# Altium footprint library IPC-7355 QFP_Shrink_Sq_40P_Side_N.PcbLib: 26 footprints (part 2 of 3)
Each footprint in its own frame and in the unit in brackets; x right, y up, seen from the top. Pads: shape width x height; smd on the part's side, far side on the other; paste and mask are expansions set on the pad; w line width, h text height; cw(c..) or ccw(c..) is an arc to the next point about the centre after c.
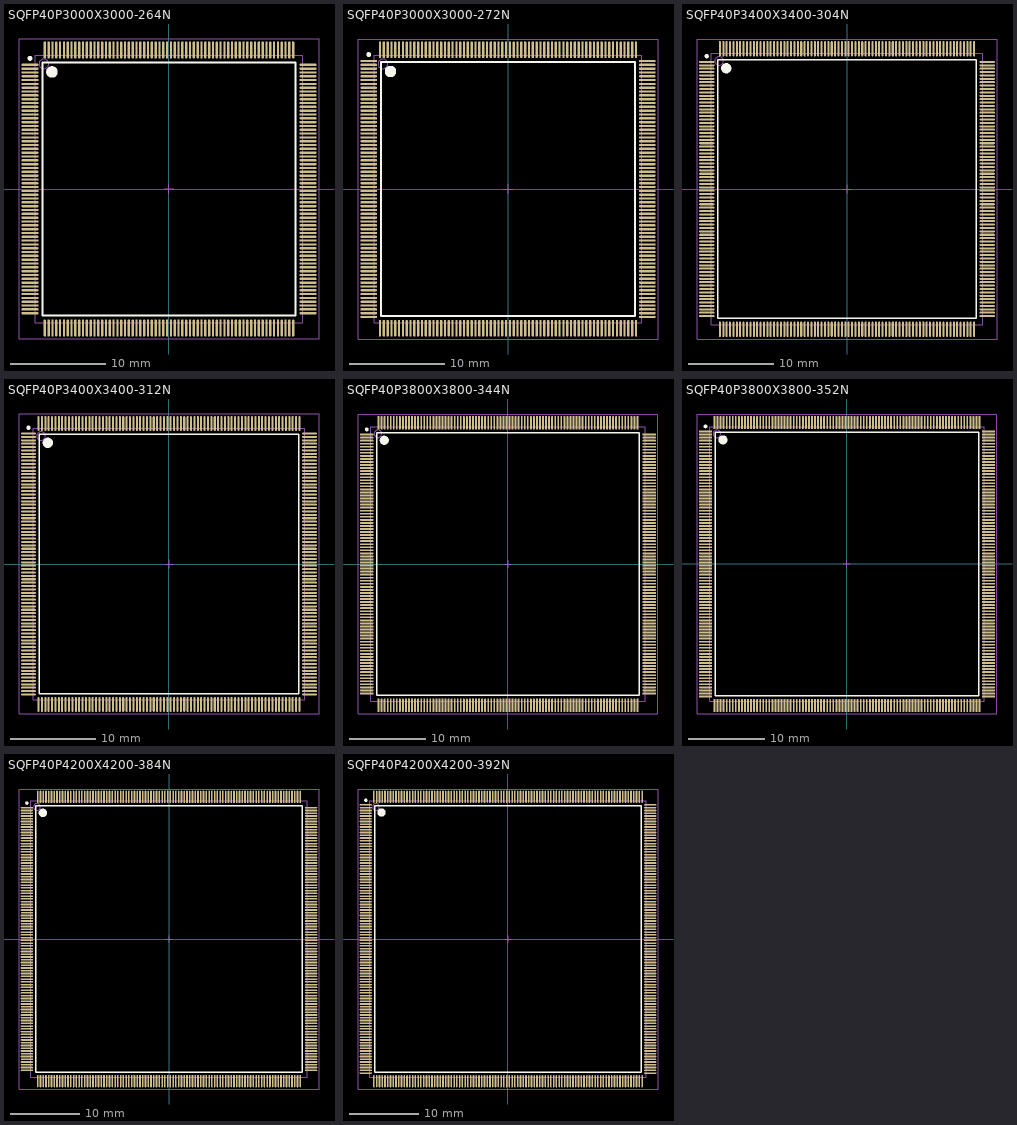
[diagram p1: the footprints below, top view; thin cyan lines are the x and y axes]

## SQFP40P3000X3000-264N [mm] "Shrink QFP, 264-Leads, Body 28x28mm, Pitch 0.4mm, IPC Medium Density"
height 3.75
pads (264):
  oval 1.8x0.24 smd: 1(-14.55,13) 2(-14.55,12.6) 3(-14.55,12.2) 4(-14.55,11.8) 5(-14.55,11.4) 6(-14.55,11) 7(-14.55,10.6) 8(-14.55,10.2) 9(-14.55,9.8) 10(-14.55,9.4) 11(-14.55,9) 12(-14.55,8.6) 13(-14.55,8.2) 14(-14.55,7.8) 15(-14.55,7.4) 16(-14.55,7) 17(-14.55,6.6) 18(-14.55,6.2) 19(-14.55,5.8) 20(-14.55,5.4) 21(-14.55,5) 22(-14.55,4.6) 23(-14.55,4.2) 24(-14.55,3.8) 25(-14.55,3.4) 26(-14.55,3) 27(-14.55,2.6) 28(-14.55,2.2) 29(-14.55,1.8) 30(-14.55,1.4) 31(-14.55,1) 32(-14.55,0.6) 33(-14.55,0.2) 34(-14.55,-0.2) 35(-14.55,-0.6) 36(-14.55,-1) 37(-14.55,-1.4) 38(-14.55,-1.8) 39(-14.55,-2.2) 40(-14.55,-2.6) 41(-14.55,-3) 42(-14.55,-3.4) 43(-14.55,-3.8) 44(-14.55,-4.2) 45(-14.55,-4.6) 46(-14.55,-5) 47(-14.55,-5.4) 48(-14.55,-5.8) 49(-14.55,-6.2) 50(-14.55,-6.6) 51(-14.55,-7) 52(-14.55,-7.4) 53(-14.55,-7.8) 54(-14.55,-8.2) 55(-14.55,-8.6) 56(-14.55,-9) 57(-14.55,-9.4) 58(-14.55,-9.8) 59(-14.55,-10.2) 60(-14.55,-10.6) 61(-14.55,-11) 62(-14.55,-11.4) 63(-14.55,-11.8) 64(-14.55,-12.2) 65(-14.55,-12.6) 66(-14.55,-13) 133(14.55,-13) 134(14.55,-12.6) 135(14.55,-12.2) 136(14.55,-11.8) 137(14.55,-11.4) 138(14.55,-11) 139(14.55,-10.6) 140(14.55,-10.2) 141(14.55,-9.8) 142(14.55,-9.4) 143(14.55,-9) 144(14.55,-8.6) 145(14.55,-8.2) 146(14.55,-7.8) 147(14.55,-7.4) 148(14.55,-7) 149(14.55,-6.6) 150(14.55,-6.2) 151(14.55,-5.8) 152(14.55,-5.4) 153(14.55,-5) 154(14.55,-4.6) 155(14.55,-4.2) 156(14.55,-3.8) 157(14.55,-3.4) 158(14.55,-3) 159(14.55,-2.6) 160(14.55,-2.2) 161(14.55,-1.8) 162(14.55,-1.4) 163(14.55,-1) 164(14.55,-0.6) 165(14.55,-0.2) 166(14.55,0.2) 167(14.55,0.6) 168(14.55,1) 169(14.55,1.4) 170(14.55,1.8) 171(14.55,2.2) 172(14.55,2.6) 173(14.55,3) 174(14.55,3.4) 175(14.55,3.8) 176(14.55,4.2) 177(14.55,4.6) 178(14.55,5) 179(14.55,5.4) 180(14.55,5.8) 181(14.55,6.2) 182(14.55,6.6) 183(14.55,7) 184(14.55,7.4) 185(14.55,7.8) 186(14.55,8.2) 187(14.55,8.6) 188(14.55,9) 189(14.55,9.4) 190(14.55,9.8) 191(14.55,10.2) 192(14.55,10.6) 193(14.55,11) 194(14.55,11.4) 195(14.55,11.8) 196(14.55,12.2) 197(14.55,12.6) 198(14.55,13)
  oval 0.24x1.8 smd: 67(-13,-14.55) 68(-12.6,-14.55) 69(-12.2,-14.55) 70(-11.8,-14.55) 71(-11.4,-14.55) 72(-11,-14.55) 73(-10.6,-14.55) 74(-10.2,-14.55) 75(-9.8,-14.55) 76(-9.4,-14.55) 77(-9,-14.55) 78(-8.6,-14.55) 79(-8.2,-14.55) 80(-7.8,-14.55) 81(-7.4,-14.55) 82(-7,-14.55) 83(-6.6,-14.55) 84(-6.2,-14.55) 85(-5.8,-14.55) 86(-5.4,-14.55) 87(-5,-14.55) 88(-4.6,-14.55) 89(-4.2,-14.55) 90(-3.8,-14.55) 91(-3.4,-14.55) 92(-3,-14.55) 93(-2.6,-14.55) 94(-2.2,-14.55) 95(-1.8,-14.55) 96(-1.4,-14.55) 97(-1,-14.55) 98(-0.6,-14.55) 99(-0.2,-14.55) 100(0.2,-14.55) 101(0.6,-14.55) 102(1,-14.55) 103(1.4,-14.55) 104(1.8,-14.55) 105(2.2,-14.55) 106(2.6,-14.55) 107(3,-14.55) 108(3.4,-14.55) 109(3.8,-14.55) 110(4.2,-14.55) 111(4.6,-14.55) 112(5,-14.55) 113(5.4,-14.55) 114(5.8,-14.55) 115(6.2,-14.55) 116(6.6,-14.55) 117(7,-14.55) 118(7.4,-14.55) 119(7.8,-14.55) 120(8.2,-14.55) 121(8.6,-14.55) 122(9,-14.55) 123(9.4,-14.55) 124(9.8,-14.55) 125(10.2,-14.55) 126(10.6,-14.55) 127(11,-14.55) 128(11.4,-14.55) 129(11.8,-14.55) 130(12.2,-14.55) 131(12.6,-14.55) 132(13,-14.55) 199(13,14.55) 200(12.6,14.55) 201(12.2,14.55) 202(11.8,14.55) 203(11.4,14.55) 204(11,14.55) 205(10.6,14.55) 206(10.2,14.55) 207(9.8,14.55) 208(9.4,14.55) 209(9,14.55) 210(8.6,14.55) 211(8.2,14.55) 212(7.8,14.55) 213(7.4,14.55) 214(7,14.55) 215(6.6,14.55) 216(6.2,14.55) 217(5.8,14.55) 218(5.4,14.55) 219(5,14.55) 220(4.6,14.55) 221(4.2,14.55) 222(3.8,14.55) 223(3.4,14.55) 224(3,14.55) 225(2.6,14.55) 226(2.2,14.55) 227(1.8,14.55) 228(1.4,14.55) 229(1,14.55) 230(0.6,14.55) 231(0.2,14.55) 232(-0.2,14.55) 233(-0.6,14.55) 234(-1,14.55) 235(-1.4,14.55) 236(-1.8,14.55) 237(-2.2,14.55) 238(-2.6,14.55) 239(-3,14.55) 240(-3.4,14.55) 241(-3.8,14.55) 242(-4.2,14.55) 243(-4.6,14.55) 244(-5,14.55) 245(-5.4,14.55) 246(-5.8,14.55) 247(-6.2,14.55) 248(-6.6,14.55) 249(-7,14.55) 250(-7.4,14.55) 251(-7.8,14.55) 252(-8.2,14.55) 253(-8.6,14.55) 254(-9,14.55) 255(-9.4,14.55) 256(-9.8,14.55) 257(-10.2,14.55) 258(-10.6,14.55) 259(-11,14.55) 260(-11.4,14.55) 261(-11.8,14.55) 262(-12.2,14.55) 263(-12.6,14.55) 264(-13,14.55)
Top Overlay:
  circle w0.6: c-12.25,12.25 r0.3
  circle w0.25: c-14.55,13.67 r0.125
  lines w0.2: -13.25,-13.25 13.25,-13.25 13.25,13.25 -13.25,13.25 -13.25,-13.25
Mechanical 13:
  circle w0.1: c-13.1,13.1 r0.5
  lines w0.1: -14,-14 14,-14 14,14 -14,14 -14,-14
Mechanical 15:
  lines w0.1: -0.5,0 0.5,0 ; 0,-0.5 0,0.5 ; -15.7,-15.7 15.7,-15.7 15.7,15.7 -15.7,15.7 -15.7,-15.7
3D body: height 3.75, standoff 0, extent -14,-14 14,14

## SQFP40P3000X3000-272N [mm] "Shrink QFP, 272-Leads, Body 28x28mm, Pitch 0.4mm, IPC Medium Density"
height 3.75
pads (272):
  oval 1.75x0.24 smd: 1(-14.575,13.4) 2(-14.575,13) 3(-14.575,12.6) 4(-14.575,12.2) 5(-14.575,11.8) 6(-14.575,11.4) 7(-14.575,11) 8(-14.575,10.6) 9(-14.575,10.2) 10(-14.575,9.8) 11(-14.575,9.4) 12(-14.575,9) 13(-14.575,8.6) 14(-14.575,8.2) 15(-14.575,7.8) 16(-14.575,7.4) 17(-14.575,7) 18(-14.575,6.6) 19(-14.575,6.2) 20(-14.575,5.8) 21(-14.575,5.4) 22(-14.575,5) 23(-14.575,4.6) 24(-14.575,4.2) 25(-14.575,3.8) 26(-14.575,3.4) 27(-14.575,3) 28(-14.575,2.6) 29(-14.575,2.2) 30(-14.575,1.8) 31(-14.575,1.4) 32(-14.575,1) 33(-14.575,0.6) 34(-14.575,0.2) 35(-14.575,-0.2) 36(-14.575,-0.6) 37(-14.575,-1) 38(-14.575,-1.4) 39(-14.575,-1.8) 40(-14.575,-2.2) 41(-14.575,-2.6) 42(-14.575,-3) 43(-14.575,-3.4) 44(-14.575,-3.8) 45(-14.575,-4.2) 46(-14.575,-4.6) 47(-14.575,-5) 48(-14.575,-5.4) 49(-14.575,-5.8) 50(-14.575,-6.2) 51(-14.575,-6.6) 52(-14.575,-7) 53(-14.575,-7.4) 54(-14.575,-7.8) 55(-14.575,-8.2) 56(-14.575,-8.6) 57(-14.575,-9) 58(-14.575,-9.4) 59(-14.575,-9.8) 60(-14.575,-10.2) 61(-14.575,-10.6) 62(-14.575,-11) 63(-14.575,-11.4) 64(-14.575,-11.8) 65(-14.575,-12.2) 66(-14.575,-12.6) 67(-14.575,-13) 68(-14.575,-13.4) 137(14.575,-13.4) 138(14.575,-13) 139(14.575,-12.6) 140(14.575,-12.2) 141(14.575,-11.8) 142(14.575,-11.4) 143(14.575,-11) 144(14.575,-10.6) 145(14.575,-10.2) 146(14.575,-9.8) 147(14.575,-9.4) 148(14.575,-9) 149(14.575,-8.6) 150(14.575,-8.2) 151(14.575,-7.8) 152(14.575,-7.4) 153(14.575,-7) 154(14.575,-6.6) 155(14.575,-6.2) 156(14.575,-5.8) 157(14.575,-5.4) 158(14.575,-5) 159(14.575,-4.6) 160(14.575,-4.2) 161(14.575,-3.8) 162(14.575,-3.4) 163(14.575,-3) 164(14.575,-2.6) 165(14.575,-2.2) 166(14.575,-1.8) 167(14.575,-1.4) 168(14.575,-1) 169(14.575,-0.6) 170(14.575,-0.2) 171(14.575,0.2) 172(14.575,0.6) 173(14.575,1) 174(14.575,1.4) 175(14.575,1.8) 176(14.575,2.2) 177(14.575,2.6) 178(14.575,3) 179(14.575,3.4) 180(14.575,3.8) 181(14.575,4.2) 182(14.575,4.6) 183(14.575,5) 184(14.575,5.4) 185(14.575,5.8) 186(14.575,6.2) 187(14.575,6.6) 188(14.575,7) 189(14.575,7.4) 190(14.575,7.8) 191(14.575,8.2) 192(14.575,8.6) 193(14.575,9) 194(14.575,9.4) 195(14.575,9.8) 196(14.575,10.2) 197(14.575,10.6) 198(14.575,11) 199(14.575,11.4) 200(14.575,11.8) 201(14.575,12.2) 202(14.575,12.6) 203(14.575,13) 204(14.575,13.4)
  oval 0.24x1.75 smd: 69(-13.4,-14.575) 70(-13,-14.575) 71(-12.6,-14.575) 72(-12.2,-14.575) 73(-11.8,-14.575) 74(-11.4,-14.575) 75(-11,-14.575) 76(-10.6,-14.575) 77(-10.2,-14.575) 78(-9.8,-14.575) 79(-9.4,-14.575) 80(-9,-14.575) 81(-8.6,-14.575) 82(-8.2,-14.575) 83(-7.8,-14.575) 84(-7.4,-14.575) 85(-7,-14.575) 86(-6.6,-14.575) 87(-6.2,-14.575) 88(-5.8,-14.575) 89(-5.4,-14.575) 90(-5,-14.575) 91(-4.6,-14.575) 92(-4.2,-14.575) 93(-3.8,-14.575) 94(-3.4,-14.575) 95(-3,-14.575) 96(-2.6,-14.575) 97(-2.2,-14.575) 98(-1.8,-14.575) 99(-1.4,-14.575) 100(-1,-14.575) 101(-0.6,-14.575) 102(-0.2,-14.575) 103(0.2,-14.575) 104(0.6,-14.575) 105(1,-14.575) 106(1.4,-14.575) 107(1.8,-14.575) 108(2.2,-14.575) 109(2.6,-14.575) 110(3,-14.575) 111(3.4,-14.575) 112(3.8,-14.575) 113(4.2,-14.575) 114(4.6,-14.575) 115(5,-14.575) 116(5.4,-14.575) 117(5.8,-14.575) 118(6.2,-14.575) 119(6.6,-14.575) 120(7,-14.575) 121(7.4,-14.575) 122(7.8,-14.575) 123(8.2,-14.575) 124(8.6,-14.575) 125(9,-14.575) 126(9.4,-14.575) 127(9.8,-14.575) 128(10.2,-14.575) 129(10.6,-14.575) 130(11,-14.575) 131(11.4,-14.575) 132(11.8,-14.575) 133(12.2,-14.575) 134(12.6,-14.575) 135(13,-14.575) 136(13.4,-14.575) 205(13.4,14.575) 206(13,14.575) 207(12.6,14.575) 208(12.2,14.575) 209(11.8,14.575) 210(11.4,14.575) 211(11,14.575) 212(10.6,14.575) 213(10.2,14.575) 214(9.8,14.575) 215(9.4,14.575) 216(9,14.575) 217(8.6,14.575) 218(8.2,14.575) 219(7.8,14.575) 220(7.4,14.575) 221(7,14.575) 222(6.6,14.575) 223(6.2,14.575) 224(5.8,14.575) 225(5.4,14.575) 226(5,14.575) 227(4.6,14.575) 228(4.2,14.575) 229(3.8,14.575) 230(3.4,14.575) 231(3,14.575) 232(2.6,14.575) 233(2.2,14.575) 234(1.8,14.575) 235(1.4,14.575) 236(1,14.575) 237(0.6,14.575) 238(0.2,14.575) 239(-0.2,14.575) 240(-0.6,14.575) 241(-1,14.575) 242(-1.4,14.575) 243(-1.8,14.575) 244(-2.2,14.575) 245(-2.6,14.575) 246(-3,14.575) 247(-3.4,14.575) 248(-3.8,14.575) 249(-4.2,14.575) 250(-4.6,14.575) 251(-5,14.575) 252(-5.4,14.575) 253(-5.8,14.575) 254(-6.2,14.575) 255(-6.6,14.575) 256(-7,14.575) 257(-7.4,14.575) 258(-7.8,14.575) 259(-8.2,14.575) 260(-8.6,14.575) 261(-9,14.575) 262(-9.4,14.575) 263(-9.8,14.575) 264(-10.2,14.575) 265(-10.6,14.575) 266(-11,14.575) 267(-11.4,14.575) 268(-11.8,14.575) 269(-12.2,14.575) 270(-12.6,14.575) 271(-13,14.575) 272(-13.4,14.575)
Top Overlay:
  circle w0.6: c-12.3,12.3 r0.3
  circle w0.25: c-14.575,14.07 r0.125
  lines w0.2: -13.3,-13.3 13.3,-13.3 13.3,13.3 -13.3,13.3 -13.3,-13.3
Mechanical 13:
  circle w0.1: c-13.1,13.1 r0.5
  lines w0.1: -14,-14 14,-14 14,14 -14,14 -14,-14
Mechanical 15:
  lines w0.1: -0.5,0 0.5,0 ; 0,-0.5 0,0.5 ; -15.7,-15.7 15.7,-15.7 15.7,15.7 -15.7,15.7 -15.7,-15.7
3D body: height 3.75, standoff 0, extent -14,-14 14,14

## SQFP40P3400X3400-304N [mm] "Shrink QFP, 304-Leads, Body 32x32mm, Pitch 0.4mm, IPC Medium Density"
height 4.2
pads (304):
  oval 1.8x0.24 smd: 1(-16.55,15) 2(-16.55,14.6) 3(-16.55,14.2) 4(-16.55,13.8) 5(-16.55,13.4) 6(-16.55,13) 7(-16.55,12.6) 8(-16.55,12.2) 9(-16.55,11.8) 10(-16.55,11.4) 11(-16.55,11) 12(-16.55,10.6) 13(-16.55,10.2) 14(-16.55,9.8) 15(-16.55,9.4) 16(-16.55,9) 17(-16.55,8.6) 18(-16.55,8.2) 19(-16.55,7.8) 20(-16.55,7.4) 21(-16.55,7) 22(-16.55,6.6) 23(-16.55,6.2) 24(-16.55,5.8) 25(-16.55,5.4) 26(-16.55,5) 27(-16.55,4.6) 28(-16.55,4.2) 29(-16.55,3.8) 30(-16.55,3.4) 31(-16.55,3) 32(-16.55,2.6) 33(-16.55,2.2) 34(-16.55,1.8) 35(-16.55,1.4) 36(-16.55,1) 37(-16.55,0.6) 38(-16.55,0.2) 39(-16.55,-0.2) 40(-16.55,-0.6) 41(-16.55,-1) 42(-16.55,-1.4) 43(-16.55,-1.8) 44(-16.55,-2.2) 45(-16.55,-2.6) 46(-16.55,-3) 47(-16.55,-3.4) 48(-16.55,-3.8) 49(-16.55,-4.2) 50(-16.55,-4.6) 51(-16.55,-5) 52(-16.55,-5.4) 53(-16.55,-5.8) 54(-16.55,-6.2) 55(-16.55,-6.6) 56(-16.55,-7) 57(-16.55,-7.4) 58(-16.55,-7.8) 59(-16.55,-8.2) 60(-16.55,-8.6) 61(-16.55,-9) 62(-16.55,-9.4) 63(-16.55,-9.8) 64(-16.55,-10.2) 65(-16.55,-10.6) 66(-16.55,-11) 67(-16.55,-11.4) 68(-16.55,-11.8) 69(-16.55,-12.2) 70(-16.55,-12.6) 71(-16.55,-13) 72(-16.55,-13.4) 73(-16.55,-13.8) 74(-16.55,-14.2) 75(-16.55,-14.6) 76(-16.55,-15) 153(16.55,-15) 154(16.55,-14.6) 155(16.55,-14.2) 156(16.55,-13.8) 157(16.55,-13.4) 158(16.55,-13) 159(16.55,-12.6) 160(16.55,-12.2) 161(16.55,-11.8) 162(16.55,-11.4) 163(16.55,-11) 164(16.55,-10.6) 165(16.55,-10.2) 166(16.55,-9.8) 167(16.55,-9.4) 168(16.55,-9) 169(16.55,-8.6) 170(16.55,-8.2) 171(16.55,-7.8) 172(16.55,-7.4) 173(16.55,-7) 174(16.55,-6.6) 175(16.55,-6.2) 176(16.55,-5.8) 177(16.55,-5.4) 178(16.55,-5) 179(16.55,-4.6) 180(16.55,-4.2) 181(16.55,-3.8) 182(16.55,-3.4) 183(16.55,-3) 184(16.55,-2.6) 185(16.55,-2.2) 186(16.55,-1.8) 187(16.55,-1.4) 188(16.55,-1) 189(16.55,-0.6) 190(16.55,-0.2) 191(16.55,0.2) 192(16.55,0.6) 193(16.55,1) 194(16.55,1.4) 195(16.55,1.8) 196(16.55,2.2) 197(16.55,2.6) 198(16.55,3) 199(16.55,3.4) 200(16.55,3.8) 201(16.55,4.2) 202(16.55,4.6) 203(16.55,5) 204(16.55,5.4) 205(16.55,5.8) 206(16.55,6.2) 207(16.55,6.6) 208(16.55,7) 209(16.55,7.4) 210(16.55,7.8) 211(16.55,8.2) 212(16.55,8.6) 213(16.55,9) 214(16.55,9.4) 215(16.55,9.8) 216(16.55,10.2) 217(16.55,10.6) 218(16.55,11) 219(16.55,11.4) 220(16.55,11.8) 221(16.55,12.2) 222(16.55,12.6) 223(16.55,13) 224(16.55,13.4) 225(16.55,13.8) 226(16.55,14.2) 227(16.55,14.6) 228(16.55,15)
  oval 0.24x1.8 smd: 77(-15,-16.55) 78(-14.6,-16.55) 79(-14.2,-16.55) 80(-13.8,-16.55) 81(-13.4,-16.55) 82(-13,-16.55) 83(-12.6,-16.55) 84(-12.2,-16.55) 85(-11.8,-16.55) 86(-11.4,-16.55) 87(-11,-16.55) 88(-10.6,-16.55) 89(-10.2,-16.55) 90(-9.8,-16.55) 91(-9.4,-16.55) 92(-9,-16.55) 93(-8.6,-16.55) 94(-8.2,-16.55) 95(-7.8,-16.55) 96(-7.4,-16.55) 97(-7,-16.55) 98(-6.6,-16.55) 99(-6.2,-16.55) 100(-5.8,-16.55) 101(-5.4,-16.55) 102(-5,-16.55) 103(-4.6,-16.55) 104(-4.2,-16.55) 105(-3.8,-16.55) 106(-3.4,-16.55) 107(-3,-16.55) 108(-2.6,-16.55) 109(-2.2,-16.55) 110(-1.8,-16.55) 111(-1.4,-16.55) 112(-1,-16.55) 113(-0.6,-16.55) 114(-0.2,-16.55) 115(0.2,-16.55) 116(0.6,-16.55) 117(1,-16.55) 118(1.4,-16.55) 119(1.8,-16.55) 120(2.2,-16.55) 121(2.6,-16.55) 122(3,-16.55) 123(3.4,-16.55) 124(3.8,-16.55) 125(4.2,-16.55) 126(4.6,-16.55) 127(5,-16.55) 128(5.4,-16.55) 129(5.8,-16.55) 130(6.2,-16.55) 131(6.6,-16.55) 132(7,-16.55) 133(7.4,-16.55) 134(7.8,-16.55) 135(8.2,-16.55) 136(8.6,-16.55) 137(9,-16.55) 138(9.4,-16.55) 139(9.8,-16.55) 140(10.2,-16.55) 141(10.6,-16.55) 142(11,-16.55) 143(11.4,-16.55) 144(11.8,-16.55) 145(12.2,-16.55) 146(12.6,-16.55) 147(13,-16.55) 148(13.4,-16.55) 149(13.8,-16.55) 150(14.2,-16.55) 151(14.6,-16.55) 152(15,-16.55) 229(15,16.55) 230(14.6,16.55) 231(14.2,16.55) 232(13.8,16.55) 233(13.4,16.55) 234(13,16.55) 235(12.6,16.55) 236(12.2,16.55) 237(11.8,16.55) 238(11.4,16.55) 239(11,16.55) 240(10.6,16.55) 241(10.2,16.55) 242(9.8,16.55) 243(9.4,16.55) 244(9,16.55) 245(8.6,16.55) 246(8.2,16.55) 247(7.8,16.55) 248(7.4,16.55) 249(7,16.55) 250(6.6,16.55) 251(6.2,16.55) 252(5.8,16.55) 253(5.4,16.55) 254(5,16.55) 255(4.6,16.55) 256(4.2,16.55) 257(3.8,16.55) 258(3.4,16.55) 259(3,16.55) 260(2.6,16.55) 261(2.2,16.55) 262(1.8,16.55) 263(1.4,16.55) 264(1,16.55) 265(0.6,16.55) 266(0.2,16.55) 267(-0.2,16.55) 268(-0.6,16.55) 269(-1,16.55) 270(-1.4,16.55) 271(-1.8,16.55) 272(-2.2,16.55) 273(-2.6,16.55) 274(-3,16.55) 275(-3.4,16.55) 276(-3.8,16.55) 277(-4.2,16.55) 278(-4.6,16.55) 279(-5,16.55) 280(-5.4,16.55) 281(-5.8,16.55) 282(-6.2,16.55) 283(-6.6,16.55) 284(-7,16.55) 285(-7.4,16.55) 286(-7.8,16.55) 287(-8.2,16.55) 288(-8.6,16.55) 289(-9,16.55) 290(-9.4,16.55) 291(-9.8,16.55) 292(-10.2,16.55) 293(-10.6,16.55) 294(-11,16.55) 295(-11.4,16.55) 296(-11.8,16.55) 297(-12.2,16.55) 298(-12.6,16.55) 299(-13,16.55) 300(-13.4,16.55) 301(-13.8,16.55) 302(-14.2,16.55) 303(-14.6,16.55) 304(-15,16.55)
Top Overlay:
  circle w0.6: c-14.25,14.25 r0.3
  circle w0.25: c-16.55,15.67 r0.125
  lines w0.2: -15.25,-15.25 15.25,-15.25 15.25,15.25 -15.25,15.25 -15.25,-15.25
Mechanical 13:
  circle w0.1: c-15.1,15.1 r0.5
  lines w0.1: -16,-16 16,-16 16,16 -16,16 -16,-16
Mechanical 15:
  lines w0.1: -0.5,0 0.5,0 ; 0,-0.5 0,0.5 ; -17.7,-17.7 17.7,-17.7 17.7,17.7 -17.7,17.7 -17.7,-17.7
3D body: height 4.2, standoff 0, extent -16,-16 16,16

## SQFP40P3400X3400-312N [mm] "Shrink QFP, 312-Leads, Body 32x32mm, Pitch 0.4mm, IPC Medium Density"
height 4.2
pads (312):
  oval 1.75x0.24 smd: 1(-16.575,15.4) 2(-16.575,15) 3(-16.575,14.6) 4(-16.575,14.2) 5(-16.575,13.8) 6(-16.575,13.4) 7(-16.575,13) 8(-16.575,12.6) 9(-16.575,12.2) 10(-16.575,11.8) 11(-16.575,11.4) 12(-16.575,11) 13(-16.575,10.6) 14(-16.575,10.2) 15(-16.575,9.8) 16(-16.575,9.4) 17(-16.575,9) 18(-16.575,8.6) 19(-16.575,8.2) 20(-16.575,7.8) 21(-16.575,7.4) 22(-16.575,7) 23(-16.575,6.6) 24(-16.575,6.2) 25(-16.575,5.8) 26(-16.575,5.4) 27(-16.575,5) 28(-16.575,4.6) 29(-16.575,4.2) 30(-16.575,3.8) 31(-16.575,3.4) 32(-16.575,3) 33(-16.575,2.6) 34(-16.575,2.2) 35(-16.575,1.8) 36(-16.575,1.4) 37(-16.575,1) 38(-16.575,0.6) 39(-16.575,0.2) 40(-16.575,-0.2) 41(-16.575,-0.6) 42(-16.575,-1) 43(-16.575,-1.4) 44(-16.575,-1.8) 45(-16.575,-2.2) 46(-16.575,-2.6) 47(-16.575,-3) 48(-16.575,-3.4) 49(-16.575,-3.8) 50(-16.575,-4.2) 51(-16.575,-4.6) 52(-16.575,-5) 53(-16.575,-5.4) 54(-16.575,-5.8) 55(-16.575,-6.2) 56(-16.575,-6.6) 57(-16.575,-7) 58(-16.575,-7.4) 59(-16.575,-7.8) 60(-16.575,-8.2) 61(-16.575,-8.6) 62(-16.575,-9) 63(-16.575,-9.4) 64(-16.575,-9.8) 65(-16.575,-10.2) 66(-16.575,-10.6) 67(-16.575,-11) 68(-16.575,-11.4) 69(-16.575,-11.8) 70(-16.575,-12.2) 71(-16.575,-12.6) 72(-16.575,-13) 73(-16.575,-13.4) 74(-16.575,-13.8) 75(-16.575,-14.2) 76(-16.575,-14.6) 77(-16.575,-15) 78(-16.575,-15.4) 157(16.575,-15.4) 158(16.575,-15) 159(16.575,-14.6) 160(16.575,-14.2) 161(16.575,-13.8) 162(16.575,-13.4) 163(16.575,-13) 164(16.575,-12.6) 165(16.575,-12.2) 166(16.575,-11.8) 167(16.575,-11.4) 168(16.575,-11) 169(16.575,-10.6) 170(16.575,-10.2) 171(16.575,-9.8) 172(16.575,-9.4) 173(16.575,-9) 174(16.575,-8.6) 175(16.575,-8.2) 176(16.575,-7.8) 177(16.575,-7.4) 178(16.575,-7) 179(16.575,-6.6) 180(16.575,-6.2) 181(16.575,-5.8) 182(16.575,-5.4) 183(16.575,-5) 184(16.575,-4.6) 185(16.575,-4.2) 186(16.575,-3.8) 187(16.575,-3.4) 188(16.575,-3) 189(16.575,-2.6) 190(16.575,-2.2) 191(16.575,-1.8) 192(16.575,-1.4) 193(16.575,-1) 194(16.575,-0.6) 195(16.575,-0.2) 196(16.575,0.2) 197(16.575,0.6) 198(16.575,1) 199(16.575,1.4) 200(16.575,1.8) 201(16.575,2.2) 202(16.575,2.6) 203(16.575,3) 204(16.575,3.4) 205(16.575,3.8) 206(16.575,4.2) 207(16.575,4.6) 208(16.575,5) 209(16.575,5.4) 210(16.575,5.8) 211(16.575,6.2) 212(16.575,6.6) 213(16.575,7) 214(16.575,7.4) 215(16.575,7.8) 216(16.575,8.2) 217(16.575,8.6) 218(16.575,9) 219(16.575,9.4) 220(16.575,9.8) 221(16.575,10.2) 222(16.575,10.6) 223(16.575,11) 224(16.575,11.4) 225(16.575,11.8) 226(16.575,12.2) 227(16.575,12.6) 228(16.575,13) 229(16.575,13.4) 230(16.575,13.8) 231(16.575,14.2) 232(16.575,14.6) 233(16.575,15) 234(16.575,15.4)
  oval 0.24x1.75 smd: 79(-15.4,-16.575) 80(-15,-16.575) 81(-14.6,-16.575) 82(-14.2,-16.575) 83(-13.8,-16.575) 84(-13.4,-16.575) 85(-13,-16.575) 86(-12.6,-16.575) 87(-12.2,-16.575) 88(-11.8,-16.575) 89(-11.4,-16.575) 90(-11,-16.575) 91(-10.6,-16.575) 92(-10.2,-16.575) 93(-9.8,-16.575) 94(-9.4,-16.575) 95(-9,-16.575) 96(-8.6,-16.575) 97(-8.2,-16.575) 98(-7.8,-16.575) 99(-7.4,-16.575) 100(-7,-16.575) 101(-6.6,-16.575) 102(-6.2,-16.575) 103(-5.8,-16.575) 104(-5.4,-16.575) 105(-5,-16.575) 106(-4.6,-16.575) 107(-4.2,-16.575) 108(-3.8,-16.575) 109(-3.4,-16.575) 110(-3,-16.575) 111(-2.6,-16.575) 112(-2.2,-16.575) 113(-1.8,-16.575) 114(-1.4,-16.575) 115(-1,-16.575) 116(-0.6,-16.575) 117(-0.2,-16.575) 118(0.2,-16.575) 119(0.6,-16.575) 120(1,-16.575) 121(1.4,-16.575) 122(1.8,-16.575) 123(2.2,-16.575) 124(2.6,-16.575) 125(3,-16.575) 126(3.4,-16.575) 127(3.8,-16.575) 128(4.2,-16.575) 129(4.6,-16.575) 130(5,-16.575) 131(5.4,-16.575) 132(5.8,-16.575) 133(6.2,-16.575) 134(6.6,-16.575) 135(7,-16.575) 136(7.4,-16.575) 137(7.8,-16.575) 138(8.2,-16.575) 139(8.6,-16.575) 140(9,-16.575) 141(9.4,-16.575) 142(9.8,-16.575) 143(10.2,-16.575) 144(10.6,-16.575) 145(11,-16.575) 146(11.4,-16.575) 147(11.8,-16.575) 148(12.2,-16.575) 149(12.6,-16.575) 150(13,-16.575) 151(13.4,-16.575) 152(13.8,-16.575) 153(14.2,-16.575) 154(14.6,-16.575) 155(15,-16.575) 156(15.4,-16.575) 235(15.4,16.575) 236(15,16.575) 237(14.6,16.575) 238(14.2,16.575) 239(13.8,16.575) 240(13.4,16.575) 241(13,16.575) 242(12.6,16.575) 243(12.2,16.575) 244(11.8,16.575) 245(11.4,16.575) 246(11,16.575) 247(10.6,16.575) 248(10.2,16.575) 249(9.8,16.575) 250(9.4,16.575) 251(9,16.575) 252(8.6,16.575) 253(8.2,16.575) 254(7.8,16.575) 255(7.4,16.575) 256(7,16.575) 257(6.6,16.575) 258(6.2,16.575) 259(5.8,16.575) 260(5.4,16.575) 261(5,16.575) 262(4.6,16.575) 263(4.2,16.575) 264(3.8,16.575) 265(3.4,16.575) 266(3,16.575) 267(2.6,16.575) 268(2.2,16.575) 269(1.8,16.575) 270(1.4,16.575) 271(1,16.575) 272(0.6,16.575) 273(0.2,16.575) 274(-0.2,16.575) 275(-0.6,16.575) 276(-1,16.575) 277(-1.4,16.575) 278(-1.8,16.575) 279(-2.2,16.575) 280(-2.6,16.575) 281(-3,16.575) 282(-3.4,16.575) 283(-3.8,16.575) 284(-4.2,16.575) 285(-4.6,16.575) 286(-5,16.575) 287(-5.4,16.575) 288(-5.8,16.575) 289(-6.2,16.575) 290(-6.6,16.575) 291(-7,16.575) 292(-7.4,16.575) 293(-7.8,16.575) 294(-8.2,16.575) 295(-8.6,16.575) 296(-9,16.575) 297(-9.4,16.575) 298(-9.8,16.575) 299(-10.2,16.575) 300(-10.6,16.575) 301(-11,16.575) 302(-11.4,16.575) 303(-11.8,16.575) 304(-12.2,16.575) 305(-12.6,16.575) 306(-13,16.575) 307(-13.4,16.575) 308(-13.8,16.575) 309(-14.2,16.575) 310(-14.6,16.575) 311(-15,16.575) 312(-15.4,16.575)
Top Overlay:
  circle w0.6: c-14.3,14.3 r0.3
  circle w0.25: c-16.575,16.07 r0.125
  lines w0.2: -15.3,-15.3 15.3,-15.3 15.3,15.3 -15.3,15.3 -15.3,-15.3
Mechanical 13:
  circle w0.1: c-15.1,15.1 r0.5
  lines w0.1: -16,-16 16,-16 16,16 -16,16 -16,-16
Mechanical 15:
  lines w0.1: -0.5,0 0.5,0 ; 0,-0.5 0,0.5 ; -17.7,-17.7 17.7,-17.7 17.7,17.7 -17.7,17.7 -17.7,-17.7
3D body: height 4.2, standoff 0, extent -16,-16 16,16

## SQFP40P3800X3800-344N [mm] "Shrink QFP, 344-Leads, Body 36x36mm, Pitch 0.4mm, IPC Medium Density"
height 4.2
pads (344):
  oval 1.8x0.24 smd: 1(-18.55,17) 2(-18.55,16.6) 3(-18.55,16.2) 4(-18.55,15.8) 5(-18.55,15.4) 6(-18.55,15) 7(-18.55,14.6) 8(-18.55,14.2) 9(-18.55,13.8) 10(-18.55,13.4) 11(-18.55,13) 12(-18.55,12.6) 13(-18.55,12.2) 14(-18.55,11.8) 15(-18.55,11.4) 16(-18.55,11) 17(-18.55,10.6) 18(-18.55,10.2) 19(-18.55,9.8) 20(-18.55,9.4) 21(-18.55,9) 22(-18.55,8.6) 23(-18.55,8.2) 24(-18.55,7.8) 25(-18.55,7.4) 26(-18.55,7) 27(-18.55,6.6) 28(-18.55,6.2) 29(-18.55,5.8) 30(-18.55,5.4) 31(-18.55,5) 32(-18.55,4.6) 33(-18.55,4.2) 34(-18.55,3.8) 35(-18.55,3.4) 36(-18.55,3) 37(-18.55,2.6) 38(-18.55,2.2) 39(-18.55,1.8) 40(-18.55,1.4) 41(-18.55,1) 42(-18.55,0.6) 43(-18.55,0.2) 44(-18.55,-0.2) 45(-18.55,-0.6) 46(-18.55,-1) 47(-18.55,-1.4) 48(-18.55,-1.8) 49(-18.55,-2.2) 50(-18.55,-2.6) 51(-18.55,-3) 52(-18.55,-3.4) 53(-18.55,-3.8) 54(-18.55,-4.2) 55(-18.55,-4.6) 56(-18.55,-5) 57(-18.55,-5.4) 58(-18.55,-5.8) 59(-18.55,-6.2) 60(-18.55,-6.6) 61(-18.55,-7) 62(-18.55,-7.4) 63(-18.55,-7.8) 64(-18.55,-8.2) 65(-18.55,-8.6) 66(-18.55,-9) 67(-18.55,-9.4) 68(-18.55,-9.8) 69(-18.55,-10.2) 70(-18.55,-10.6) 71(-18.55,-11) 72(-18.55,-11.4) 73(-18.55,-11.8) 74(-18.55,-12.2) 75(-18.55,-12.6) 76(-18.55,-13) 77(-18.55,-13.4) 78(-18.55,-13.8) 79(-18.55,-14.2) 80(-18.55,-14.6) 81(-18.55,-15) 82(-18.55,-15.4) 83(-18.55,-15.8) 84(-18.55,-16.2) 85(-18.55,-16.6) 86(-18.55,-17) 173(18.55,-17) 174(18.55,-16.6) 175(18.55,-16.2) 176(18.55,-15.8) 177(18.55,-15.4) 178(18.55,-15) 179(18.55,-14.6) 180(18.55,-14.2) 181(18.55,-13.8) 182(18.55,-13.4) 183(18.55,-13) 184(18.55,-12.6) 185(18.55,-12.2) 186(18.55,-11.8) 187(18.55,-11.4) 188(18.55,-11) 189(18.55,-10.6) 190(18.55,-10.2) 191(18.55,-9.8) 192(18.55,-9.4) 193(18.55,-9) 194(18.55,-8.6) 195(18.55,-8.2) 196(18.55,-7.8) 197(18.55,-7.4) 198(18.55,-7) 199(18.55,-6.6) 200(18.55,-6.2) 201(18.55,-5.8) 202(18.55,-5.4) 203(18.55,-5) 204(18.55,-4.6) 205(18.55,-4.2) 206(18.55,-3.8) 207(18.55,-3.4) 208(18.55,-3) 209(18.55,-2.6) 210(18.55,-2.2) 211(18.55,-1.8) 212(18.55,-1.4) 213(18.55,-1) 214(18.55,-0.6) 215(18.55,-0.2) 216(18.55,0.2) 217(18.55,0.6) 218(18.55,1) 219(18.55,1.4) 220(18.55,1.8) 221(18.55,2.2) 222(18.55,2.6) 223(18.55,3) 224(18.55,3.4) 225(18.55,3.8) 226(18.55,4.2) 227(18.55,4.6) 228(18.55,5) 229(18.55,5.4) 230(18.55,5.8) 231(18.55,6.2) 232(18.55,6.6) 233(18.55,7) 234(18.55,7.4) 235(18.55,7.8) 236(18.55,8.2) 237(18.55,8.6) 238(18.55,9) 239(18.55,9.4) 240(18.55,9.8) 241(18.55,10.2) 242(18.55,10.6) 243(18.55,11) 244(18.55,11.4) 245(18.55,11.8) 246(18.55,12.2) 247(18.55,12.6) 248(18.55,13) 249(18.55,13.4) 250(18.55,13.8) 251(18.55,14.2) 252(18.55,14.6) 253(18.55,15) 254(18.55,15.4) 255(18.55,15.8) 256(18.55,16.2) 257(18.55,16.6) 258(18.55,17)
  oval 0.24x1.8 smd: 87(-17,-18.55) 88(-16.6,-18.55) 89(-16.2,-18.55) 90(-15.8,-18.55) 91(-15.4,-18.55) 92(-15,-18.55) 93(-14.6,-18.55) 94(-14.2,-18.55) 95(-13.8,-18.55) 96(-13.4,-18.55) 97(-13,-18.55) 98(-12.6,-18.55) 99(-12.2,-18.55) 100(-11.8,-18.55) 101(-11.4,-18.55) 102(-11,-18.55) 103(-10.6,-18.55) 104(-10.2,-18.55) 105(-9.8,-18.55) 106(-9.4,-18.55) 107(-9,-18.55) 108(-8.6,-18.55) 109(-8.2,-18.55) 110(-7.8,-18.55) 111(-7.4,-18.55) 112(-7,-18.55) 113(-6.6,-18.55) 114(-6.2,-18.55) 115(-5.8,-18.55) 116(-5.4,-18.55) 117(-5,-18.55) 118(-4.6,-18.55) 119(-4.2,-18.55) 120(-3.8,-18.55) 121(-3.4,-18.55) 122(-3,-18.55) 123(-2.6,-18.55) 124(-2.2,-18.55) 125(-1.8,-18.55) 126(-1.4,-18.55) 127(-1,-18.55) 128(-0.6,-18.55) 129(-0.2,-18.55) 130(0.2,-18.55) 131(0.6,-18.55) 132(1,-18.55) 133(1.4,-18.55) 134(1.8,-18.55) 135(2.2,-18.55) 136(2.6,-18.55) 137(3,-18.55) 138(3.4,-18.55) 139(3.8,-18.55) 140(4.2,-18.55) 141(4.6,-18.55) 142(5,-18.55) 143(5.4,-18.55) 144(5.8,-18.55) 145(6.2,-18.55) 146(6.6,-18.55) 147(7,-18.55) 148(7.4,-18.55) 149(7.8,-18.55) 150(8.2,-18.55) 151(8.6,-18.55) 152(9,-18.55) 153(9.4,-18.55) 154(9.8,-18.55) 155(10.2,-18.55) 156(10.6,-18.55) 157(11,-18.55) 158(11.4,-18.55) 159(11.8,-18.55) 160(12.2,-18.55) 161(12.6,-18.55) 162(13,-18.55) 163(13.4,-18.55) 164(13.8,-18.55) 165(14.2,-18.55) 166(14.6,-18.55) 167(15,-18.55) 168(15.4,-18.55) 169(15.8,-18.55) 170(16.2,-18.55) 171(16.6,-18.55) 172(17,-18.55) 259(17,18.55) 260(16.6,18.55) 261(16.2,18.55) 262(15.8,18.55) 263(15.4,18.55) 264(15,18.55) 265(14.6,18.55) 266(14.2,18.55) 267(13.8,18.55) 268(13.4,18.55) 269(13,18.55) 270(12.6,18.55) 271(12.2,18.55) 272(11.8,18.55) 273(11.4,18.55) 274(11,18.55) 275(10.6,18.55) 276(10.2,18.55) 277(9.8,18.55) 278(9.4,18.55) 279(9,18.55) 280(8.6,18.55) 281(8.2,18.55) 282(7.8,18.55) 283(7.4,18.55) 284(7,18.55) 285(6.6,18.55) 286(6.2,18.55) 287(5.8,18.55) 288(5.4,18.55) 289(5,18.55) 290(4.6,18.55) 291(4.2,18.55) 292(3.8,18.55) 293(3.4,18.55) 294(3,18.55) 295(2.6,18.55) 296(2.2,18.55) 297(1.8,18.55) 298(1.4,18.55) 299(1,18.55) 300(0.6,18.55) 301(0.2,18.55) 302(-0.2,18.55) 303(-0.6,18.55) 304(-1,18.55) 305(-1.4,18.55) 306(-1.8,18.55) 307(-2.2,18.55) 308(-2.6,18.55) 309(-3,18.55) 310(-3.4,18.55) 311(-3.8,18.55) 312(-4.2,18.55) 313(-4.6,18.55) 314(-5,18.55) 315(-5.4,18.55) 316(-5.8,18.55) 317(-6.2,18.55) 318(-6.6,18.55) 319(-7,18.55) 320(-7.4,18.55) 321(-7.8,18.55) 322(-8.2,18.55) 323(-8.6,18.55) 324(-9,18.55) 325(-9.4,18.55) 326(-9.8,18.55) 327(-10.2,18.55) 328(-10.6,18.55) 329(-11,18.55) 330(-11.4,18.55) 331(-11.8,18.55) 332(-12.2,18.55) 333(-12.6,18.55) 334(-13,18.55) 335(-13.4,18.55) 336(-13.8,18.55) 337(-14.2,18.55) 338(-14.6,18.55) 339(-15,18.55) 340(-15.4,18.55) 341(-15.8,18.55) 342(-16.2,18.55) 343(-16.6,18.55) 344(-17,18.55)
Top Overlay:
  circle w0.6: c-16.25,16.25 r0.3
  circle w0.25: c-18.55,17.67 r0.125
  lines w0.2: -17.25,-17.25 17.25,-17.25 17.25,17.25 -17.25,17.25 -17.25,-17.25
Mechanical 13:
  circle w0.1: c-17.1,17.1 r0.5
  lines w0.1: -18,-18 18,-18 18,18 -18,18 -18,-18
Mechanical 15:
  lines w0.1: -0.5,0 0.5,0 ; 0,-0.5 0,0.5 ; -19.7,-19.7 19.7,-19.7 19.7,19.7 -19.7,19.7 -19.7,-19.7
3D body: height 4.2, standoff 0, extent -18,-18 18,18

## SQFP40P3800X3800-352N [mm] "Shrink QFP, 352-Leads, Body 36x36mm, Pitch 0.4mm, IPC Medium Density"
height 4.2
pads (352):
  oval 1.75x0.24 smd: 1(-18.575,17.4) 2(-18.575,17) 3(-18.575,16.6) 4(-18.575,16.2) 5(-18.575,15.8) 6(-18.575,15.4) 7(-18.575,15) 8(-18.575,14.6) 9(-18.575,14.2) 10(-18.575,13.8) 11(-18.575,13.4) 12(-18.575,13) 13(-18.575,12.6) 14(-18.575,12.2) 15(-18.575,11.8) 16(-18.575,11.4) 17(-18.575,11) 18(-18.575,10.6) 19(-18.575,10.2) 20(-18.575,9.8) 21(-18.575,9.4) 22(-18.575,9) 23(-18.575,8.6) 24(-18.575,8.2) 25(-18.575,7.8) 26(-18.575,7.4) 27(-18.575,7) 28(-18.575,6.6) 29(-18.575,6.2) 30(-18.575,5.8) 31(-18.575,5.4) 32(-18.575,5) 33(-18.575,4.6) 34(-18.575,4.2) 35(-18.575,3.8) 36(-18.575,3.4) 37(-18.575,3) 38(-18.575,2.6) 39(-18.575,2.2) 40(-18.575,1.8) 41(-18.575,1.4) 42(-18.575,1) 43(-18.575,0.6) 44(-18.575,0.2) 45(-18.575,-0.2) 46(-18.575,-0.6) 47(-18.575,-1) 48(-18.575,-1.4) 49(-18.575,-1.8) 50(-18.575,-2.2) 51(-18.575,-2.6) 52(-18.575,-3) 53(-18.575,-3.4) 54(-18.575,-3.8) 55(-18.575,-4.2) 56(-18.575,-4.6) 57(-18.575,-5) 58(-18.575,-5.4) 59(-18.575,-5.8) 60(-18.575,-6.2) 61(-18.575,-6.6) 62(-18.575,-7) 63(-18.575,-7.4) 64(-18.575,-7.8) 65(-18.575,-8.2) 66(-18.575,-8.6) 67(-18.575,-9) 68(-18.575,-9.4) 69(-18.575,-9.8) 70(-18.575,-10.2) 71(-18.575,-10.6) 72(-18.575,-11) 73(-18.575,-11.4) 74(-18.575,-11.8) 75(-18.575,-12.2) 76(-18.575,-12.6) 77(-18.575,-13) 78(-18.575,-13.4) 79(-18.575,-13.8) 80(-18.575,-14.2) 81(-18.575,-14.6) 82(-18.575,-15) 83(-18.575,-15.4) 84(-18.575,-15.8) 85(-18.575,-16.2) 86(-18.575,-16.6) 87(-18.575,-17) 88(-18.575,-17.4) 177(18.575,-17.4) 178(18.575,-17) 179(18.575,-16.6) 180(18.575,-16.2) 181(18.575,-15.8) 182(18.575,-15.4) 183(18.575,-15) 184(18.575,-14.6) 185(18.575,-14.2) 186(18.575,-13.8) 187(18.575,-13.4) 188(18.575,-13) 189(18.575,-12.6) 190(18.575,-12.2) 191(18.575,-11.8) 192(18.575,-11.4) 193(18.575,-11) 194(18.575,-10.6) 195(18.575,-10.2) 196(18.575,-9.8) 197(18.575,-9.4) 198(18.575,-9) 199(18.575,-8.6) 200(18.575,-8.2) 201(18.575,-7.8) 202(18.575,-7.4) 203(18.575,-7) 204(18.575,-6.6) 205(18.575,-6.2) 206(18.575,-5.8) 207(18.575,-5.4) 208(18.575,-5) 209(18.575,-4.6) 210(18.575,-4.2) 211(18.575,-3.8) 212(18.575,-3.4) 213(18.575,-3) 214(18.575,-2.6) 215(18.575,-2.2) 216(18.575,-1.8) 217(18.575,-1.4) 218(18.575,-1) 219(18.575,-0.6) 220(18.575,-0.2) 221(18.575,0.2) 222(18.575,0.6) 223(18.575,1) 224(18.575,1.4) 225(18.575,1.8) 226(18.575,2.2) 227(18.575,2.6) 228(18.575,3) 229(18.575,3.4) 230(18.575,3.8) 231(18.575,4.2) 232(18.575,4.6) 233(18.575,5) 234(18.575,5.4) 235(18.575,5.8) 236(18.575,6.2) 237(18.575,6.6) 238(18.575,7) 239(18.575,7.4) 240(18.575,7.8) 241(18.575,8.2) 242(18.575,8.6) 243(18.575,9) 244(18.575,9.4) 245(18.575,9.8) 246(18.575,10.2) 247(18.575,10.6) 248(18.575,11) 249(18.575,11.4) 250(18.575,11.8) 251(18.575,12.2) 252(18.575,12.6) 253(18.575,13) 254(18.575,13.4) 255(18.575,13.8) 256(18.575,14.2) 257(18.575,14.6) 258(18.575,15) 259(18.575,15.4) 260(18.575,15.8) 261(18.575,16.2) 262(18.575,16.6) 263(18.575,17) 264(18.575,17.4)
  oval 0.24x1.75 smd: 89(-17.4,-18.575) 90(-17,-18.575) 91(-16.6,-18.575) 92(-16.2,-18.575) 93(-15.8,-18.575) 94(-15.4,-18.575) 95(-15,-18.575) 96(-14.6,-18.575) 97(-14.2,-18.575) 98(-13.8,-18.575) 99(-13.4,-18.575) 100(-13,-18.575) 101(-12.6,-18.575) 102(-12.2,-18.575) 103(-11.8,-18.575) 104(-11.4,-18.575) 105(-11,-18.575) 106(-10.6,-18.575) 107(-10.2,-18.575) 108(-9.8,-18.575) 109(-9.4,-18.575) 110(-9,-18.575) 111(-8.6,-18.575) 112(-8.2,-18.575) 113(-7.8,-18.575) 114(-7.4,-18.575) 115(-7,-18.575) 116(-6.6,-18.575) 117(-6.2,-18.575) 118(-5.8,-18.575) 119(-5.4,-18.575) 120(-5,-18.575) 121(-4.6,-18.575) 122(-4.2,-18.575) 123(-3.8,-18.575) 124(-3.4,-18.575) 125(-3,-18.575) 126(-2.6,-18.575) 127(-2.2,-18.575) 128(-1.8,-18.575) 129(-1.4,-18.575) 130(-1,-18.575) 131(-0.6,-18.575) 132(-0.2,-18.575) 133(0.2,-18.575) 134(0.6,-18.575) 135(1,-18.575) 136(1.4,-18.575) 137(1.8,-18.575) 138(2.2,-18.575) 139(2.6,-18.575) 140(3,-18.575) 141(3.4,-18.575) 142(3.8,-18.575) 143(4.2,-18.575) 144(4.6,-18.575) 145(5,-18.575) 146(5.4,-18.575) 147(5.8,-18.575) 148(6.2,-18.575) 149(6.6,-18.575) 150(7,-18.575) 151(7.4,-18.575) 152(7.8,-18.575) 153(8.2,-18.575) 154(8.6,-18.575) 155(9,-18.575) 156(9.4,-18.575) 157(9.8,-18.575) 158(10.2,-18.575) 159(10.6,-18.575) 160(11,-18.575) 161(11.4,-18.575) 162(11.8,-18.575) 163(12.2,-18.575) 164(12.6,-18.575) 165(13,-18.575) 166(13.4,-18.575) 167(13.8,-18.575) 168(14.2,-18.575) 169(14.6,-18.575) 170(15,-18.575) 171(15.4,-18.575) 172(15.8,-18.575) 173(16.2,-18.575) 174(16.6,-18.575) 175(17,-18.575) 176(17.4,-18.575) 265(17.4,18.575) 266(17,18.575) 267(16.6,18.575) 268(16.2,18.575) 269(15.8,18.575) 270(15.4,18.575) 271(15,18.575) 272(14.6,18.575) 273(14.2,18.575) 274(13.8,18.575) 275(13.4,18.575) 276(13,18.575) 277(12.6,18.575) 278(12.2,18.575) 279(11.8,18.575) 280(11.4,18.575) 281(11,18.575) 282(10.6,18.575) 283(10.2,18.575) 284(9.8,18.575) 285(9.4,18.575) 286(9,18.575) 287(8.6,18.575) 288(8.2,18.575) 289(7.8,18.575) 290(7.4,18.575) 291(7,18.575) 292(6.6,18.575) 293(6.2,18.575) 294(5.8,18.575) 295(5.4,18.575) 296(5,18.575) 297(4.6,18.575) 298(4.2,18.575) 299(3.8,18.575) 300(3.4,18.575) 301(3,18.575) 302(2.6,18.575) 303(2.2,18.575) 304(1.8,18.575) 305(1.4,18.575) 306(1,18.575) 307(0.6,18.575) 308(0.2,18.575) 309(-0.2,18.575) 310(-0.6,18.575) 311(-1,18.575) 312(-1.4,18.575) 313(-1.8,18.575) 314(-2.2,18.575) 315(-2.6,18.575) 316(-3,18.575) 317(-3.4,18.575) 318(-3.8,18.575) 319(-4.2,18.575) 320(-4.6,18.575) 321(-5,18.575) 322(-5.4,18.575) 323(-5.8,18.575) 324(-6.2,18.575) 325(-6.6,18.575) 326(-7,18.575) 327(-7.4,18.575) 328(-7.8,18.575) 329(-8.2,18.575) 330(-8.6,18.575) 331(-9,18.575) 332(-9.4,18.575) 333(-9.8,18.575) 334(-10.2,18.575) 335(-10.6,18.575) 336(-11,18.575) 337(-11.4,18.575) 338(-11.8,18.575) 339(-12.2,18.575) 340(-12.6,18.575) 341(-13,18.575) 342(-13.4,18.575) 343(-13.8,18.575) 344(-14.2,18.575) 345(-14.6,18.575) 346(-15,18.575) 347(-15.4,18.575) 348(-15.8,18.575) 349(-16.2,18.575) 350(-16.6,18.575) 351(-17,18.575) 352(-17.4,18.575)
Top Overlay:
  circle w0.6: c-16.3,16.3 r0.3
  circle w0.25: c-18.575,18.07 r0.125
  lines w0.2: -17.3,-17.3 17.3,-17.3 17.3,17.3 -17.3,17.3 -17.3,-17.3
Mechanical 13:
  circle w0.1: c-17.1,17.1 r0.5
  lines w0.1: -18,-18 18,-18 18,18 -18,18 -18,-18
Mechanical 15:
  lines w0.1: -0.5,0 0.5,0 ; 0,-0.5 0,0.5 ; -19.7,-19.7 19.7,-19.7 19.7,19.7 -19.7,19.7 -19.7,-19.7
3D body: height 4.2, standoff 0, extent -18,-18 18,18

## SQFP40P4200X4200-384N [mm] "Shrink QFP, 384-Leads, Body 40x40mm, Pitch 0.4mm, IPC Medium Density"
height 4.2
pads (384):
  oval 1.8x0.24 smd: 1(-20.55,19) 2(-20.55,18.6) 3(-20.55,18.2) 4(-20.55,17.8) 5(-20.55,17.4) 6(-20.55,17) 7(-20.55,16.6) 8(-20.55,16.2) 9(-20.55,15.8) 10(-20.55,15.4) 11(-20.55,15) 12(-20.55,14.6) 13(-20.55,14.2) 14(-20.55,13.8) 15(-20.55,13.4) 16(-20.55,13) 17(-20.55,12.6) 18(-20.55,12.2) 19(-20.55,11.8) 20(-20.55,11.4) 21(-20.55,11) 22(-20.55,10.6) 23(-20.55,10.2) 24(-20.55,9.8) 25(-20.55,9.4) 26(-20.55,9) 27(-20.55,8.6) 28(-20.55,8.2) 29(-20.55,7.8) 30(-20.55,7.4) 31(-20.55,7) 32(-20.55,6.6) 33(-20.55,6.2) 34(-20.55,5.8) 35(-20.55,5.4) 36(-20.55,5) 37(-20.55,4.6) 38(-20.55,4.2) 39(-20.55,3.8) 40(-20.55,3.4) 41(-20.55,3) 42(-20.55,2.6) 43(-20.55,2.2) 44(-20.55,1.8) 45(-20.55,1.4) 46(-20.55,1) 47(-20.55,0.6) 48(-20.55,0.2) 49(-20.55,-0.2) 50(-20.55,-0.6) 51(-20.55,-1) 52(-20.55,-1.4) 53(-20.55,-1.8) 54(-20.55,-2.2) 55(-20.55,-2.6) 56(-20.55,-3) 57(-20.55,-3.4) 58(-20.55,-3.8) 59(-20.55,-4.2) 60(-20.55,-4.6) 61(-20.55,-5) 62(-20.55,-5.4) 63(-20.55,-5.8) 64(-20.55,-6.2) 65(-20.55,-6.6) 66(-20.55,-7) 67(-20.55,-7.4) 68(-20.55,-7.8) 69(-20.55,-8.2) 70(-20.55,-8.6) 71(-20.55,-9) 72(-20.55,-9.4) 73(-20.55,-9.8) 74(-20.55,-10.2) 75(-20.55,-10.6) 76(-20.55,-11) 77(-20.55,-11.4) 78(-20.55,-11.8) 79(-20.55,-12.2) 80(-20.55,-12.6) 81(-20.55,-13) 82(-20.55,-13.4) 83(-20.55,-13.8) 84(-20.55,-14.2) 85(-20.55,-14.6) 86(-20.55,-15) 87(-20.55,-15.4) 88(-20.55,-15.8) 89(-20.55,-16.2) 90(-20.55,-16.6) 91(-20.55,-17) 92(-20.55,-17.4) 93(-20.55,-17.8) 94(-20.55,-18.2) 95(-20.55,-18.6) 96(-20.55,-19) 193(20.55,-19) 194(20.55,-18.6) 195(20.55,-18.2) 196(20.55,-17.8) 197(20.55,-17.4) 198(20.55,-17) 199(20.55,-16.6) 200(20.55,-16.2) 201(20.55,-15.8) 202(20.55,-15.4) 203(20.55,-15) 204(20.55,-14.6) 205(20.55,-14.2) 206(20.55,-13.8) 207(20.55,-13.4) 208(20.55,-13) 209(20.55,-12.6) 210(20.55,-12.2) 211(20.55,-11.8) 212(20.55,-11.4) 213(20.55,-11) 214(20.55,-10.6) 215(20.55,-10.2) 216(20.55,-9.8) 217(20.55,-9.4) 218(20.55,-9) 219(20.55,-8.6) 220(20.55,-8.2) 221(20.55,-7.8) 222(20.55,-7.4) 223(20.55,-7) 224(20.55,-6.6) 225(20.55,-6.2) 226(20.55,-5.8) 227(20.55,-5.4) 228(20.55,-5) 229(20.55,-4.6) 230(20.55,-4.2) 231(20.55,-3.8) 232(20.55,-3.4) 233(20.55,-3) 234(20.55,-2.6) 235(20.55,-2.2) 236(20.55,-1.8) 237(20.55,-1.4) 238(20.55,-1) 239(20.55,-0.6) 240(20.55,-0.2) 241(20.55,0.2) 242(20.55,0.6) 243(20.55,1) 244(20.55,1.4) 245(20.55,1.8) 246(20.55,2.2) 247(20.55,2.6) 248(20.55,3) 249(20.55,3.4) 250(20.55,3.8) 251(20.55,4.2) 252(20.55,4.6) 253(20.55,5) 254(20.55,5.4) 255(20.55,5.8) 256(20.55,6.2) 257(20.55,6.6) 258(20.55,7) 259(20.55,7.4) 260(20.55,7.8) 261(20.55,8.2) 262(20.55,8.6) 263(20.55,9) 264(20.55,9.4) 265(20.55,9.8) 266(20.55,10.2) 267(20.55,10.6) 268(20.55,11) 269(20.55,11.4) 270(20.55,11.8) 271(20.55,12.2) 272(20.55,12.6) 273(20.55,13) 274(20.55,13.4) 275(20.55,13.8) 276(20.55,14.2) 277(20.55,14.6) 278(20.55,15) 279(20.55,15.4) 280(20.55,15.8) 281(20.55,16.2) 282(20.55,16.6) 283(20.55,17) 284(20.55,17.4) 285(20.55,17.8) 286(20.55,18.2) 287(20.55,18.6) 288(20.55,19)
  oval 0.24x1.8 smd: 97(-19,-20.55) 98(-18.6,-20.55) 99(-18.2,-20.55) 100(-17.8,-20.55) 101(-17.4,-20.55) 102(-17,-20.55) 103(-16.6,-20.55) 104(-16.2,-20.55) 105(-15.8,-20.55) 106(-15.4,-20.55) 107(-15,-20.55) 108(-14.6,-20.55) 109(-14.2,-20.55) 110(-13.8,-20.55) 111(-13.4,-20.55) 112(-13,-20.55) 113(-12.6,-20.55) 114(-12.2,-20.55) 115(-11.8,-20.55) 116(-11.4,-20.55) 117(-11,-20.55) 118(-10.6,-20.55) 119(-10.2,-20.55) 120(-9.8,-20.55) 121(-9.4,-20.55) 122(-9,-20.55) 123(-8.6,-20.55) 124(-8.2,-20.55) 125(-7.8,-20.55) 126(-7.4,-20.55) 127(-7,-20.55) 128(-6.6,-20.55) 129(-6.2,-20.55) 130(-5.8,-20.55) 131(-5.4,-20.55) 132(-5,-20.55) 133(-4.6,-20.55) 134(-4.2,-20.55) 135(-3.8,-20.55) 136(-3.4,-20.55) 137(-3,-20.55) 138(-2.6,-20.55) 139(-2.2,-20.55) 140(-1.8,-20.55) 141(-1.4,-20.55) 142(-1,-20.55) 143(-0.6,-20.55) 144(-0.2,-20.55) 145(0.2,-20.55) 146(0.6,-20.55) 147(1,-20.55) 148(1.4,-20.55) 149(1.8,-20.55) 150(2.2,-20.55) 151(2.6,-20.55) 152(3,-20.55) 153(3.4,-20.55) 154(3.8,-20.55) 155(4.2,-20.55) 156(4.6,-20.55) 157(5,-20.55) 158(5.4,-20.55) 159(5.8,-20.55) 160(6.2,-20.55) 161(6.6,-20.55) 162(7,-20.55) 163(7.4,-20.55) 164(7.8,-20.55) 165(8.2,-20.55) 166(8.6,-20.55) 167(9,-20.55) 168(9.4,-20.55) 169(9.8,-20.55) 170(10.2,-20.55) 171(10.6,-20.55) 172(11,-20.55) 173(11.4,-20.55) 174(11.8,-20.55) 175(12.2,-20.55) 176(12.6,-20.55) 177(13,-20.55) 178(13.4,-20.55) 179(13.8,-20.55) 180(14.2,-20.55) 181(14.6,-20.55) 182(15,-20.55) 183(15.4,-20.55) 184(15.8,-20.55) 185(16.2,-20.55) 186(16.6,-20.55) 187(17,-20.55) 188(17.4,-20.55) 189(17.8,-20.55) 190(18.2,-20.55) 191(18.6,-20.55) 192(19,-20.55) 289(19,20.55) 290(18.6,20.55) 291(18.2,20.55) 292(17.8,20.55) 293(17.4,20.55) 294(17,20.55) 295(16.6,20.55) 296(16.2,20.55) 297(15.8,20.55) 298(15.4,20.55) 299(15,20.55) 300(14.6,20.55) 301(14.2,20.55) 302(13.8,20.55) 303(13.4,20.55) 304(13,20.55) 305(12.6,20.55) 306(12.2,20.55) 307(11.8,20.55) 308(11.4,20.55) 309(11,20.55) 310(10.6,20.55) 311(10.2,20.55) 312(9.8,20.55) 313(9.4,20.55) 314(9,20.55) 315(8.6,20.55) 316(8.2,20.55) 317(7.8,20.55) 318(7.4,20.55) 319(7,20.55) 320(6.6,20.55) 321(6.2,20.55) 322(5.8,20.55) 323(5.4,20.55) 324(5,20.55) 325(4.6,20.55) 326(4.2,20.55) 327(3.8,20.55) 328(3.4,20.55) 329(3,20.55) 330(2.6,20.55) 331(2.2,20.55) 332(1.8,20.55) 333(1.4,20.55) 334(1,20.55) 335(0.6,20.55) 336(0.2,20.55) 337(-0.2,20.55) 338(-0.6,20.55) 339(-1,20.55) 340(-1.4,20.55) 341(-1.8,20.55) 342(-2.2,20.55) 343(-2.6,20.55) 344(-3,20.55) 345(-3.4,20.55) 346(-3.8,20.55) 347(-4.2,20.55) 348(-4.6,20.55) 349(-5,20.55) 350(-5.4,20.55) 351(-5.8,20.55) 352(-6.2,20.55) 353(-6.6,20.55) 354(-7,20.55) 355(-7.4,20.55) 356(-7.8,20.55) 357(-8.2,20.55) 358(-8.6,20.55) 359(-9,20.55) 360(-9.4,20.55) 361(-9.8,20.55) 362(-10.2,20.55) 363(-10.6,20.55) 364(-11,20.55) 365(-11.4,20.55) 366(-11.8,20.55) 367(-12.2,20.55) 368(-12.6,20.55) 369(-13,20.55) 370(-13.4,20.55) 371(-13.8,20.55) 372(-14.2,20.55) 373(-14.6,20.55) 374(-15,20.55) 375(-15.4,20.55) 376(-15.8,20.55) 377(-16.2,20.55) 378(-16.6,20.55) 379(-17,20.55) 380(-17.4,20.55) 381(-17.8,20.55) 382(-18.2,20.55) 383(-18.6,20.55) 384(-19,20.55)
Top Overlay:
  circle w0.6: c-18.25,18.25 r0.3
  circle w0.25: c-20.55,19.67 r0.125
  lines w0.2: -19.25,-19.25 19.25,-19.25 19.25,19.25 -19.25,19.25 -19.25,-19.25
Mechanical 13:
  circle w0.1: c-19.1,19.1 r0.5
  lines w0.1: -20,-20 20,-20 20,20 -20,20 -20,-20
Mechanical 15:
  lines w0.1: -0.5,0 0.5,0 ; 0,-0.5 0,0.5 ; -21.7,-21.7 21.7,-21.7 21.7,21.7 -21.7,21.7 -21.7,-21.7
3D body: height 4.2, standoff 0, extent -20,-20 20,20

## SQFP40P4200X4200-392N [mm] "Shrink QFP, 392-Leads, Body 40x40mm, Pitch 0.4mm, IPC Medium Density"
height 4.2
pads (392):
  oval 1.75x0.24 smd: 1(-20.575,19.4) 2(-20.575,19) 3(-20.575,18.6) 4(-20.575,18.2) 5(-20.575,17.8) 6(-20.575,17.4) 7(-20.575,17) 8(-20.575,16.6) 9(-20.575,16.2) 10(-20.575,15.8) 11(-20.575,15.4) 12(-20.575,15) 13(-20.575,14.6) 14(-20.575,14.2) 15(-20.575,13.8) 16(-20.575,13.4) 17(-20.575,13) 18(-20.575,12.6) 19(-20.575,12.2) 20(-20.575,11.8) 21(-20.575,11.4) 22(-20.575,11) 23(-20.575,10.6) 24(-20.575,10.2) 25(-20.575,9.8) 26(-20.575,9.4) 27(-20.575,9) 28(-20.575,8.6) 29(-20.575,8.2) 30(-20.575,7.8) 31(-20.575,7.4) 32(-20.575,7) 33(-20.575,6.6) 34(-20.575,6.2) 35(-20.575,5.8) 36(-20.575,5.4) 37(-20.575,5) 38(-20.575,4.6) 39(-20.575,4.2) 40(-20.575,3.8) 41(-20.575,3.4) 42(-20.575,3) 43(-20.575,2.6) 44(-20.575,2.2) 45(-20.575,1.8) 46(-20.575,1.4) 47(-20.575,1) 48(-20.575,0.6) 49(-20.575,0.2) 50(-20.575,-0.2) 51(-20.575,-0.6) 52(-20.575,-1) 53(-20.575,-1.4) 54(-20.575,-1.8) 55(-20.575,-2.2) 56(-20.575,-2.6) 57(-20.575,-3) 58(-20.575,-3.4) 59(-20.575,-3.8) 60(-20.575,-4.2) 61(-20.575,-4.6) 62(-20.575,-5) 63(-20.575,-5.4) 64(-20.575,-5.8) 65(-20.575,-6.2) 66(-20.575,-6.6) 67(-20.575,-7) 68(-20.575,-7.4) 69(-20.575,-7.8) 70(-20.575,-8.2) 71(-20.575,-8.6) 72(-20.575,-9) 73(-20.575,-9.4) 74(-20.575,-9.8) 75(-20.575,-10.2) 76(-20.575,-10.6) 77(-20.575,-11) 78(-20.575,-11.4) 79(-20.575,-11.8) 80(-20.575,-12.2) 81(-20.575,-12.6) 82(-20.575,-13) 83(-20.575,-13.4) 84(-20.575,-13.8) 85(-20.575,-14.2) 86(-20.575,-14.6) 87(-20.575,-15) 88(-20.575,-15.4) 89(-20.575,-15.8) 90(-20.575,-16.2) 91(-20.575,-16.6) 92(-20.575,-17) 93(-20.575,-17.4) 94(-20.575,-17.8) 95(-20.575,-18.2) 96(-20.575,-18.6) 97(-20.575,-19) 98(-20.575,-19.4) 197(20.575,-19.4) 198(20.575,-19) 199(20.575,-18.6) 200(20.575,-18.2) 201(20.575,-17.8) 202(20.575,-17.4) 203(20.575,-17) 204(20.575,-16.6) 205(20.575,-16.2) 206(20.575,-15.8) 207(20.575,-15.4) 208(20.575,-15) 209(20.575,-14.6) 210(20.575,-14.2) 211(20.575,-13.8) 212(20.575,-13.4) 213(20.575,-13) 214(20.575,-12.6) 215(20.575,-12.2) 216(20.575,-11.8) 217(20.575,-11.4) 218(20.575,-11) 219(20.575,-10.6) 220(20.575,-10.2) 221(20.575,-9.8) 222(20.575,-9.4) 223(20.575,-9) 224(20.575,-8.6) 225(20.575,-8.2) 226(20.575,-7.8) 227(20.575,-7.4) 228(20.575,-7) 229(20.575,-6.6) 230(20.575,-6.2) 231(20.575,-5.8) 232(20.575,-5.4) 233(20.575,-5) 234(20.575,-4.6) 235(20.575,-4.2) 236(20.575,-3.8) 237(20.575,-3.4) 238(20.575,-3) 239(20.575,-2.6) 240(20.575,-2.2) 241(20.575,-1.8) 242(20.575,-1.4) 243(20.575,-1) 244(20.575,-0.6) 245(20.575,-0.2) 246(20.575,0.2) 247(20.575,0.6) 248(20.575,1) 249(20.575,1.4) 250(20.575,1.8) 251(20.575,2.2) 252(20.575,2.6) 253(20.575,3) 254(20.575,3.4) 255(20.575,3.8) 256(20.575,4.2) 257(20.575,4.6) 258(20.575,5) 259(20.575,5.4) 260(20.575,5.8) 261(20.575,6.2) 262(20.575,6.6) 263(20.575,7) 264(20.575,7.4) 265(20.575,7.8) 266(20.575,8.2) 267(20.575,8.6) 268(20.575,9) 269(20.575,9.4) 270(20.575,9.8) 271(20.575,10.2) 272(20.575,10.6) 273(20.575,11) 274(20.575,11.4) 275(20.575,11.8) 276(20.575,12.2) 277(20.575,12.6) 278(20.575,13) 279(20.575,13.4) 280(20.575,13.8) 281(20.575,14.2) 282(20.575,14.6) 283(20.575,15) 284(20.575,15.4) 285(20.575,15.8) 286(20.575,16.2) 287(20.575,16.6) 288(20.575,17) 289(20.575,17.4) 290(20.575,17.8) 291(20.575,18.2) 292(20.575,18.6) 293(20.575,19) 294(20.575,19.4)
  oval 0.24x1.75 smd: 99(-19.4,-20.575) 100(-19,-20.575) 101(-18.6,-20.575) 102(-18.2,-20.575) 103(-17.8,-20.575) 104(-17.4,-20.575) 105(-17,-20.575) 106(-16.6,-20.575) 107(-16.2,-20.575) 108(-15.8,-20.575) 109(-15.4,-20.575) 110(-15,-20.575) 111(-14.6,-20.575) 112(-14.2,-20.575) 113(-13.8,-20.575) 114(-13.4,-20.575) 115(-13,-20.575) 116(-12.6,-20.575) 117(-12.2,-20.575) 118(-11.8,-20.575) 119(-11.4,-20.575) 120(-11,-20.575) 121(-10.6,-20.575) 122(-10.2,-20.575) 123(-9.8,-20.575) 124(-9.4,-20.575) 125(-9,-20.575) 126(-8.6,-20.575) 127(-8.2,-20.575) 128(-7.8,-20.575) 129(-7.4,-20.575) 130(-7,-20.575) 131(-6.6,-20.575) 132(-6.2,-20.575) 133(-5.8,-20.575) 134(-5.4,-20.575) 135(-5,-20.575) 136(-4.6,-20.575) 137(-4.2,-20.575) 138(-3.8,-20.575) 139(-3.4,-20.575) 140(-3,-20.575) 141(-2.6,-20.575) 142(-2.2,-20.575) 143(-1.8,-20.575) 144(-1.4,-20.575) 145(-1,-20.575) 146(-0.6,-20.575) 147(-0.2,-20.575) 148(0.2,-20.575) 149(0.6,-20.575) 150(1,-20.575) 151(1.4,-20.575) 152(1.8,-20.575) 153(2.2,-20.575) 154(2.6,-20.575) 155(3,-20.575) 156(3.4,-20.575) 157(3.8,-20.575) 158(4.2,-20.575) 159(4.6,-20.575) 160(5,-20.575) 161(5.4,-20.575) 162(5.8,-20.575) 163(6.2,-20.575) 164(6.6,-20.575) 165(7,-20.575) 166(7.4,-20.575) 167(7.8,-20.575) 168(8.2,-20.575) 169(8.6,-20.575) 170(9,-20.575) 171(9.4,-20.575) 172(9.8,-20.575) 173(10.2,-20.575) 174(10.6,-20.575) 175(11,-20.575) 176(11.4,-20.575) 177(11.8,-20.575) 178(12.2,-20.575) 179(12.6,-20.575) 180(13,-20.575) 181(13.4,-20.575) 182(13.8,-20.575) 183(14.2,-20.575) 184(14.6,-20.575) 185(15,-20.575) 186(15.4,-20.575) 187(15.8,-20.575) 188(16.2,-20.575) 189(16.6,-20.575) 190(17,-20.575) 191(17.4,-20.575) 192(17.8,-20.575) 193(18.2,-20.575) 194(18.6,-20.575) 195(19,-20.575) 196(19.4,-20.575) 295(19.4,20.575) 296(19,20.575) 297(18.6,20.575) 298(18.2,20.575) 299(17.8,20.575) 300(17.4,20.575) 301(17,20.575) 302(16.6,20.575) 303(16.2,20.575) 304(15.8,20.575) 305(15.4,20.575) 306(15,20.575) 307(14.6,20.575) 308(14.2,20.575) 309(13.8,20.575) 310(13.4,20.575) 311(13,20.575) 312(12.6,20.575) 313(12.2,20.575) 314(11.8,20.575) 315(11.4,20.575) 316(11,20.575) 317(10.6,20.575) 318(10.2,20.575) 319(9.8,20.575) 320(9.4,20.575) 321(9,20.575) 322(8.6,20.575) 323(8.2,20.575) 324(7.8,20.575) 325(7.4,20.575) 326(7,20.575) 327(6.6,20.575) 328(6.2,20.575) 329(5.8,20.575) 330(5.4,20.575) 331(5,20.575) 332(4.6,20.575) 333(4.2,20.575) 334(3.8,20.575) 335(3.4,20.575) 336(3,20.575) 337(2.6,20.575) 338(2.2,20.575) 339(1.8,20.575) 340(1.4,20.575) 341(1,20.575) 342(0.6,20.575) 343(0.2,20.575) 344(-0.2,20.575) 345(-0.6,20.575) 346(-1,20.575) 347(-1.4,20.575) 348(-1.8,20.575) 349(-2.2,20.575) 350(-2.6,20.575) 351(-3,20.575) 352(-3.4,20.575) 353(-3.8,20.575) 354(-4.2,20.575) 355(-4.6,20.575) 356(-5,20.575) 357(-5.4,20.575) 358(-5.8,20.575) 359(-6.2,20.575) 360(-6.6,20.575) 361(-7,20.575) 362(-7.4,20.575) 363(-7.8,20.575) 364(-8.2,20.575) 365(-8.6,20.575) 366(-9,20.575) 367(-9.4,20.575) 368(-9.8,20.575) 369(-10.2,20.575) 370(-10.6,20.575) 371(-11,20.575) 372(-11.4,20.575) 373(-11.8,20.575) 374(-12.2,20.575) 375(-12.6,20.575) 376(-13,20.575) 377(-13.4,20.575) 378(-13.8,20.575) 379(-14.2,20.575) 380(-14.6,20.575) 381(-15,20.575) 382(-15.4,20.575) 383(-15.8,20.575) 384(-16.2,20.575) 385(-16.6,20.575) 386(-17,20.575) 387(-17.4,20.575) 388(-17.8,20.575) 389(-18.2,20.575) 390(-18.6,20.575) 391(-19,20.575) 392(-19.4,20.575)
Top Overlay:
  circle w0.6: c-18.3,18.3 r0.3
  circle w0.25: c-20.575,20.07 r0.125
  lines w0.2: -19.3,-19.3 19.3,-19.3 19.3,19.3 -19.3,19.3 -19.3,-19.3
Mechanical 13:
  circle w0.1: c-19.1,19.1 r0.5
  lines w0.1: -20,-20 20,-20 20,20 -20,20 -20,-20
Mechanical 15:
  lines w0.1: -0.5,0 0.5,0 ; 0,-0.5 0,0.5 ; -21.7,-21.7 21.7,-21.7 21.7,21.7 -21.7,21.7 -21.7,-21.7
3D body: height 4.2, standoff 0, extent -20,-20 20,20